# Altium footprint library DIP-CN  0607.PcbLib: 329 footprints (part 21 of 21)
Each footprint in its own frame and in the unit in brackets; x right, y up, seen from the top. Pads: shape width x height; smd on the part's side, far side on the other; paste and mask are expansions set on the pad; w line width, h text height; cw(c..) or ccw(c..) is an arc to the next point about the centre after c.
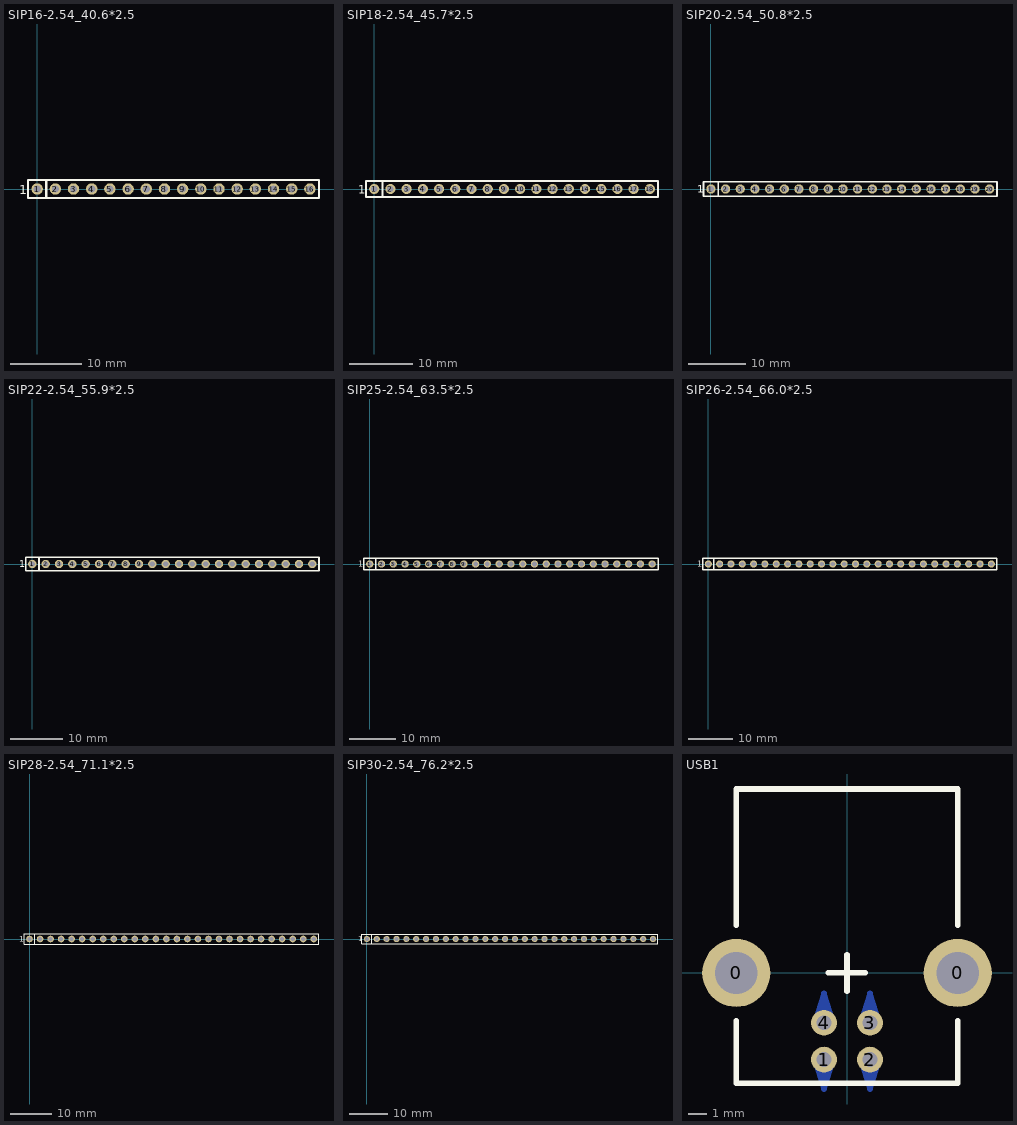
[diagram p20: the footprints below, top view; thin cyan lines are the x and y axes]

## SIP16-2.54_40.6*2.5 [mm]
pads (16):
  round 1.6 hole 1: 1(0,0) 2(2.54,0) 3(5.08,0) 4(7.62,0) 5(10.16,0) 6(12.7,0) 7(15.24,0) 8(17.78,0) 9(20.32,0) 10(22.86,0) 11(25.4,0) 12(27.94,0) 13(30.48,0) 14(33.02,0) 15(35.56,0) 16(38.1,0)
TopOverlay:
  lines w0.3: 1.27,-1.27 1.27,1.27 ; -1.27,-1.27 -1.27,1.27 39.37,1.27 39.37,-1.27 -1.27,-1.27
  text "1" at -2.54,-0.762 h1.3
BottomOverlay:
  lines w0.3: 1.27,-1.016 1.27,1.016 ; 3.81,-1.016 3.81,1.016 ; 6.35,-1.016 6.35,1.016 ; 8.89,-1.016 8.89,1.016 ; 11.43,-1.016 11.43,1.016 ; 13.97,-1.016 13.97,1.016 ; 16.51,-1.016 16.51,1.016 ; 19.05,-1.016 19.05,1.016 ; 21.59,-1.016 21.59,1.016 ; 24.13,-1.016 24.13,1.016 ; 26.67,-1.016 26.67,1.016 ; 29.21,-1.016 29.21,1.016 ; 31.75,-1.016 31.75,1.016 ; 34.29,-1.016 34.29,1.016 ; 36.83,-1.016 36.83,1.016

## SIP18-2.54_45.7*2.5 [mm]
pads (18):
  round 1.6 hole 1: 1(0,0) 2(2.54,0) 3(5.08,0) 4(7.62,0) 5(10.16,0) 6(12.7,0) 7(15.24,0) 8(17.78,0) 9(20.32,0) 10(22.86,0) 11(25.4,0) 12(27.94,0) 13(30.48,0) 14(33.02,0) 15(35.56,0) 16(38.1,0) 17(40.64,0) 18(43.18,0)
TopOverlay:
  lines w0.3: 1.27,-1.27 1.27,1.27 ; -1.27,-1.27 44.45,-1.27 44.45,1.27 -1.27,1.27 -1.27,-1.27
  text "1" at -2.54,-0.762 h1.3
BottomOverlay:
  lines w0.3: 1.27,-1.016 1.27,1.016 ; 3.81,-1.016 3.81,1.016 ; 6.35,-1.016 6.35,1.016 ; 8.89,-1.016 8.89,1.016 ; 11.43,-1.016 11.43,1.016 ; 13.97,-1.016 13.97,1.016 ; 16.51,-1.016 16.51,1.016 ; 19.05,-1.016 19.05,1.016 ; 21.59,-1.016 21.59,1.016 ; 24.13,-1.016 24.13,1.016 ; 26.67,-1.016 26.67,1.016 ; 29.21,-1.016 29.21,1.016 ; 31.75,-1.016 31.75,1.016 ; 34.29,-1.016 34.29,1.016 ; 36.83,-1.016 36.83,1.016 ; 39.37,-1.016 39.37,1.016 ; 41.91,-1.016 41.91,1.016

## SIP20-2.54_50.8*2.5 [mm]
pads (20):
  round 1.6 hole 1: 1(0,0) 2(2.54,0) 3(5.08,0) 4(7.62,0) 5(10.16,0) 6(12.7,0) 7(15.24,0) 8(17.78,0) 9(20.32,0) 10(22.86,0) 11(25.4,0) 12(27.94,0) 13(30.48,0) 14(33.02,0) 15(35.56,0) 16(38.1,0) 17(40.64,0) 18(43.18,0) 19(45.72,0) 20(48.26,0)
TopOverlay:
  lines w0.3: 1.27,-1.27 1.27,1.27 ; -1.27,-1.27 -1.27,1.27 49.53,1.27 49.53,-1.27 -1.27,-1.27
  text "1" at -2.413,-0.635 h1.3
BottomOverlay:
  lines w0.3: 1.27,-1.016 1.27,1.016 ; 3.81,-1.016 3.81,1.016 ; 6.35,-1.016 6.35,1.016 ; 8.89,-1.016 8.89,1.016 ; 11.43,-1.016 11.43,1.016 ; 13.97,-1.016 13.97,1.016 ; 16.51,-1.016 16.51,1.016 ; 19.05,-1.016 19.05,1.016 ; 21.59,-1.016 21.59,1.016 ; 24.13,-1.016 24.13,1.016 ; 26.67,-1.016 26.67,1.016 ; 29.21,-1.016 29.21,1.016 ; 31.75,-1.016 31.75,1.016 ; 34.29,-1.016 34.29,1.016 ; 36.83,-1.016 36.83,1.016 ; 39.37,-1.016 39.37,1.016 ; 41.91,-1.016 41.91,1.016 ; 44.45,-1.016 44.45,1.016 ; 46.99,-1.016 46.99,1.016

## SIP22-2.54_55.9*2.5 [mm]
pads (22):
  round 1.6 hole 1: 1(0,0) 2(2.54,0) 3(5.08,0) 4(7.62,0) 5(10.16,0) 6(12.7,0) 7(15.24,0) 8(17.78,0) 9(20.32,0) 10(22.86,0) 11(25.4,0) 12(27.94,0) 13(30.48,0) 14(33.02,0) 15(35.56,0) 16(38.1,0) 17(40.64,0) 18(43.18,0) 19(45.72,0) 20(48.26,0) 21(50.8,0) 22(53.34,0)
TopOverlay:
  lines w0.3: 1.27,-1.27 1.27,1.27 ; -1.27,-1.27 -1.27,1.27 54.61,1.27 54.61,-1.27 -1.27,-1.27
  text "1" at -2.54,-0.635 h1.3
BottomOverlay:
  lines w0.3: 1.27,-1.016 1.27,1.016 ; 3.81,-1.016 3.81,1.016 ; 6.35,-1.016 6.35,1.016 ; 8.89,-1.016 8.89,1.016 ; 11.43,-1.016 11.43,1.016 ; 13.97,-1.016 13.97,1.016 ; 16.51,-1.016 16.51,1.016 ; 19.05,-1.016 19.05,1.016 ; 21.59,-1.016 21.59,1.016 ; 24.13,-1.016 24.13,1.016 ; 26.67,-1.016 26.67,1.016 ; 29.21,-1.016 29.21,1.016 ; 31.75,-1.016 31.75,1.016 ; 34.29,-1.016 34.29,1.016 ; 36.83,-1.016 36.83,1.016 ; 39.37,-1.016 39.37,1.016 ; 41.91,-1.016 41.91,1.016 ; 44.45,-1.016 44.45,1.016 ; 46.99,-1.016 46.99,1.016 ; 49.53,-1.016 49.53,1.016 ; 52.07,-1.016 52.07,1.016

## SIP25-2.54_63.5*2.5 [mm]
pads (25):
  round 1.6 hole 1: 1(0,0) 2(2.54,0) 3(5.08,0) 4(7.62,0) 5(10.16,0) 6(12.7,0) 7(15.24,0) 8(17.78,0) 9(20.32,0) 10(22.86,0) 11(25.4,0) 12(27.94,0) 13(30.48,0) 14(33.02,0) 15(35.56,0) 16(38.1,0) 17(40.64,0) 18(43.18,0) 19(45.72,0) 20(48.26,0) 21(50.8,0) 22(53.34,0) 23(55.88,0) 24(58.42,0) 25(60.96,0)
TopOverlay:
  lines w0.3: 1.27,-1.27 1.27,1.27 ; -1.27,-1.27 62.23,-1.27 62.23,1.27 -1.27,1.27 -1.27,-1.27
  text "1" at -2.54,-0.635 h1.3
BottomOverlay:
  lines w0.3: 1.27,-1.016 1.27,1.016 ; 3.81,-1.016 3.81,1.016 ; 6.35,-1.016 6.35,1.016 ; 8.89,-1.016 8.89,1.016 ; 11.43,-1.016 11.43,1.016 ; 13.97,-1.016 13.97,1.016 ; 16.51,-1.016 16.51,1.016 ; 19.05,-1.016 19.05,1.016 ; 21.59,-1.016 21.59,1.016 ; 24.13,-1.016 24.13,1.016 ; 26.67,-1.016 26.67,1.016 ; 29.21,-1.016 29.21,1.016 ; 31.75,-1.016 31.75,1.016 ; 34.29,-1.016 34.29,1.016 ; 36.83,-1.016 36.83,1.016 ; 39.37,-1.016 39.37,1.016 ; 41.91,-1.016 41.91,1.016 ; 44.45,-1.016 44.45,1.016 ; 46.99,-1.016 46.99,1.016 ; 49.53,-1.016 49.53,1.016 ; 52.07,-1.016 52.07,1.016 ; 54.61,-1.016 54.61,1.016 ; 57.15,-1.016 57.15,1.016 ; 59.69,-1.016 59.69,1.016

## SIP26-2.54_66.0*2.5 [mm]
pads (26):
  round 1.6 hole 1: 1(0,0) 2(2.54,0) 3(5.08,0) 4(7.62,0) 5(10.16,0) 6(12.7,0) 7(15.24,0) 8(17.78,0) 9(20.32,0) 10(22.86,0) 11(25.4,0) 12(27.94,0) 13(30.48,0) 14(33.02,0) 15(35.56,0) 16(38.1,0) 17(40.64,0) 18(43.18,0) 19(45.72,0) 20(48.26,0) 21(50.8,0) 22(53.34,0) 23(55.88,0) 24(58.42,0) 25(60.96,0) 26(63.5,0)
TopOverlay:
  lines w0.3: 1.27,-1.27 1.27,1.27 ; -1.27,-1.27 -1.27,1.27 64.77,1.27 64.77,-1.27 -1.27,-1.27
  text "1" at -2.54,-0.635 h1.3

## SIP28-2.54_71.1*2.5 [mm]
pads (28):
  round 1.6 hole 1: 1(0,0) 2(2.54,0) 3(5.08,0) 4(7.62,0) 5(10.16,0) 6(12.7,0) 7(15.24,0) 8(17.78,0) 9(20.32,0) 10(22.86,0) 11(25.4,0) 12(27.94,0) 13(30.48,0) 14(33.02,0) 15(35.56,0) 16(38.1,0) 17(40.64,0) 18(43.18,0) 19(45.72,0) 20(48.26,0) 21(50.8,0) 22(53.34,0) 23(55.88,0) 24(58.42,0) 25(60.96,0) 26(63.5,0) 27(66.04,0) 28(68.58,0)
TopOverlay:
  lines w0.3: 1.27,-1.27 1.27,1.27 ; -1.27,-1.27 69.85,-1.27 69.85,1.27 -1.27,1.27 -1.27,-1.27
  text "1" at -2.54,-0.635 h1.3

## SIP30-2.54_76.2*2.5 [mm]
pads (30):
  round 1.6 hole 1: 1(0,0) 2(2.54,0) 3(5.08,0) 4(7.62,0) 5(10.16,0) 6(12.7,0) 7(15.24,0) 8(17.78,0) 9(20.32,0) 10(22.86,0) 11(25.4,0) 12(27.94,0) 13(30.48,0) 14(33.02,0) 15(35.56,0) 16(38.1,0) 17(40.64,0) 18(43.18,0) 19(45.72,0) 20(48.26,0) 21(50.8,0) 22(53.34,0) 23(55.88,0) 24(58.42,0) 25(60.96,0) 26(63.5,0) 27(66.04,0) 28(68.58,0) 29(71.12,0) 30(73.66,0)
TopOverlay:
  lines w0.3: 1.27,-1.27 1.27,1.27 ; -1.27,-1.27 -1.27,1.27 74.93,1.27 74.93,-1.27 -1.27,-1.27
  text "1" at -2.286,-0.635 h1.3

## USB1 [mm]
pads (6):
  round 3.7 hole 2.3: 0(-6.02,0) 0(6.02,0)
  round 1.4 hole 0.8: 1(-1.25,-4.71) 2(1.25,-4.71) 3(1.25,-2.71) 4(-1.25,-2.71)
BottomLayer:
  lines w0.3: -1.75,-4.67 -1.25,-6.31 ; -1.75,-2.75 -1.25,-1.11 ; -1.25,-4.71 -1.25,-6.31 ; -1.25,-2.71 -1.25,-1.11 ; -0.75,-4.67 -1.25,-6.31 ; -0.75,-2.75 -1.25,-1.11 ; 0.75,-4.67 1.25,-6.31 ; 0.75,-2.75 1.25,-1.11 ; 1.25,-4.71 1.25,-6.31 ; 1.25,-2.71 1.25,-1.11 ; 1.75,-4.67 1.25,-6.31 ; 1.75,-2.75 1.25,-1.11
TopOverlay:
  lines w0.3: -6.02,-2.6 -6.02,-6 6.02,-6 6.02,-2.6 ; -6.02,2.6 -6.02,10 6.02,10 6.02,2.6 ; -1.02,0 0.98,0 ; 0,-1 0,1
BottomOverlay:
  lines w0.3: -2.25,-3.71 2.25,-3.71 ; 0,-6.223 0,-1.016
  text "4" at -2.5,-3.25 h1.1
  text "3" at 3.25,-3.25 h1.1
  text "2" at 3.25,-5.25 h1.1
  text "1" at -2.75,-5.25 h1.1
BottomSolder:
  lines w0.3: -1.75,-4.67 -1.25,-6.31 ; -1.75,-2.75 -1.25,-1.11 ; -1.25,-4.71 -1.25,-6.31 ; -1.25,-2.71 -1.25,-1.11 ; -0.75,-4.67 -1.25,-6.31 ; -0.75,-2.75 -1.25,-1.11 ; 0.75,-4.67 1.25,-6.31 ; 0.75,-2.75 1.25,-1.11 ; 1.25,-4.71 1.25,-6.31 ; 1.25,-2.71 1.25,-1.11 ; 1.75,-4.67 1.25,-6.31 ; 1.75,-2.75 1.25,-1.11